# Altium schematic symbol library kmilo17pet-NSC_Switcher.SchLib: 2226 symbols (part 20 of 59)
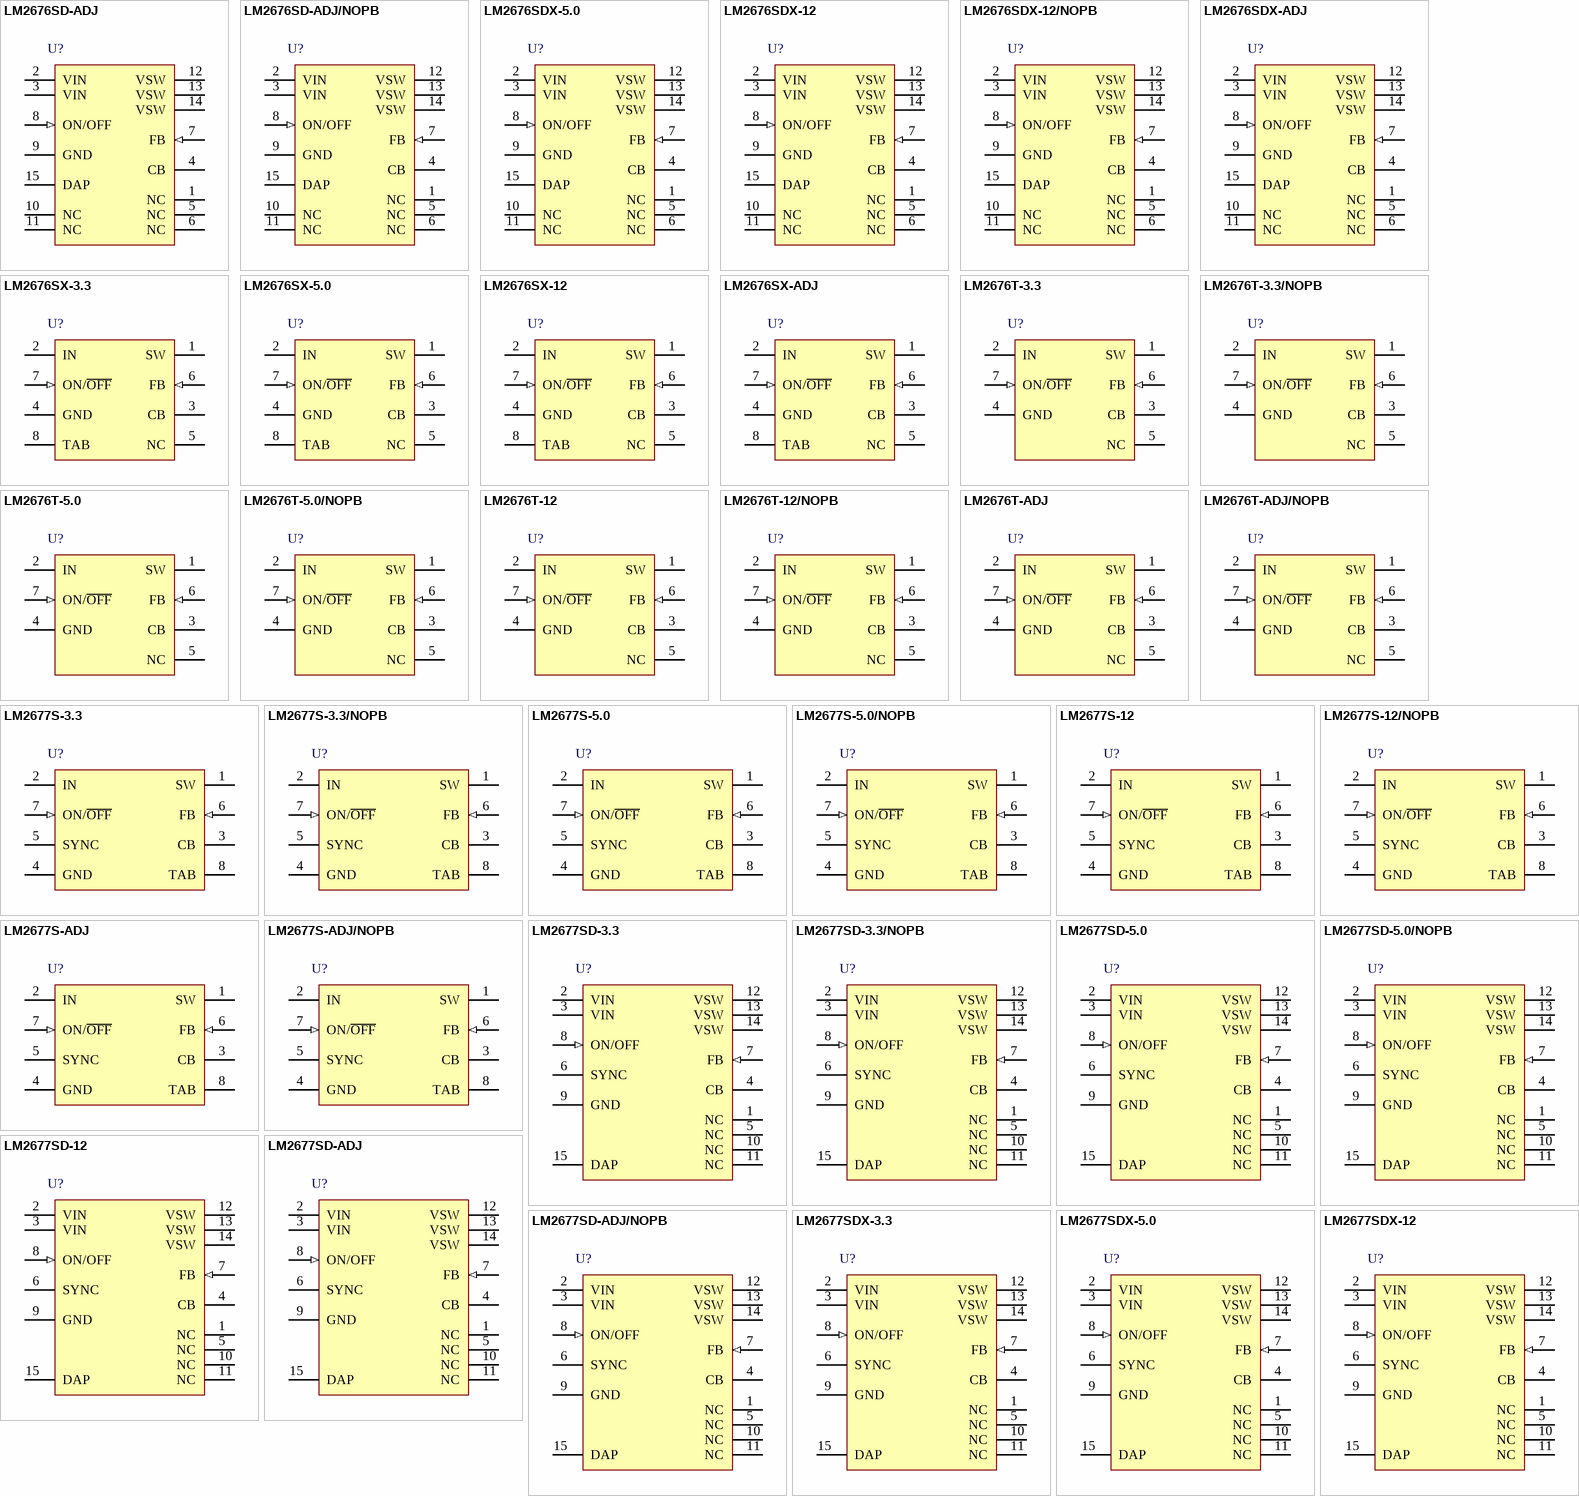
[diagram p88: symbols LM2676SD-ADJ to LM2677SDX-12]

## LM2677S-12/NOPB
designator U?
SIMPLE SWITCHER® High Efficiency 5A Step-Down Voltage Regulator with Sync, 7-pin TO-263, Pb-Free; PartNumber: LM2677S-12/NOPB; Manufacturer: National Semiconductor; PackageTopMarking: NSUZXYTTE#*LM2677S*-12; PowerWise: N; High-Reliability: Y; DatasheetVersion: Feb-2008; PackageVersion: revE, Jul-2003; PackageReference: TS7B; PackageDescription: TO-263, Molded, .400 x .390 x .180in Body, 7 Lead, .050in Pitch, Surface Mount; RoHS: Y; PinCount: 7; CompType: Switcher; Code_JEDEC: MO-169-AC; ComponentLink1Description: Manufacturer URL; ComponentLink1URL: http://www.national.com/; ComponentLink2Description: LM2677 Datasheet; ComponentLink2URL: http://www.national.com/ds/LM/LM2677.pdf; ComponentLink3Description: LM2677 Web Page; ComponentLink3URL: http://www.national.com/pf/LM/LM2677.html; ComponentLink4Description: TS7B Package Page; ComponentLink4URL: http://www.national.com/packaging/folders/ts7b.html
footprint TS7B_N (D2-PAK, 8-Leads, Body 8.6x10.2mm, Pitch 1.27mm, Lead Span 14.1mm, IPC Medium Density)
footprint TS7B_L (D2-PAK, 8-Leads, Body 8.6x10.2mm, Pitch 1.27mm, Lead Span 14.1mm, IPC High Density)
footprint TS7B_M (D2-PAK, 8-Leads, Body 8.6x10.2mm, Pitch 1.27mm, Lead Span 14.1mm, IPC Low Density)
pins: 1 SW (power), 2 IN (power), 3 CB, 4 GND (power), 5 SYNC, 6 FB (in), 7 ON/~{OFF} (in), 8 TAB

## LM2677S-ADJ
designator U?
SIMPLE SWITCHER® High Efficiency 5A Step-Down Voltage Regulator with Sync, 7-pin TO-263; PartNumber: LM2677S-ADJ; Manufacturer: National Semiconductor; PackageTopMarking: NSUZXYTTE#*LM2677S*-ADJ; PowerWise: N; High-Reliability: Y; DatasheetVersion: Feb-2008; PackageVersion: revE, Jul-2003; PackageReference: TS7B; PackageDescription: TO-263, Molded, .400 x .390 x .180in Body, 7 Lead, .050in Pitch, Surface Mount; RoHS: N; PinCount: 7; CompType: Switcher; Code_JEDEC: MO-169-AC; ComponentLink1Description: Manufacturer URL; ComponentLink1URL: http://www.national.com/; ComponentLink2Description: LM2677 Datasheet; ComponentLink2URL: http://www.national.com/ds/LM/LM2677.pdf; ComponentLink3Description: LM2677 Web Page; ComponentLink3URL: http://www.national.com/pf/LM/LM2677.html; ComponentLink4Description: TS7B Package Page; ComponentLink4URL: http://www.national.com/packaging/folders/ts7b.html
footprint TS7B_N (D2-PAK, 8-Leads, Body 8.6x10.2mm, Pitch 1.27mm, Lead Span 14.1mm, IPC Medium Density)
footprint TS7B_L (D2-PAK, 8-Leads, Body 8.6x10.2mm, Pitch 1.27mm, Lead Span 14.1mm, IPC High Density)
footprint TS7B_M (D2-PAK, 8-Leads, Body 8.6x10.2mm, Pitch 1.27mm, Lead Span 14.1mm, IPC Low Density)
pins: 1 SW (power), 2 IN (power), 3 CB, 4 GND (power), 5 SYNC, 6 FB (in), 7 ON/~{OFF} (in), 8 TAB

## LM2677S-ADJ/NOPB
designator U?
SIMPLE SWITCHER® High Efficiency 5A Step-Down Voltage Regulator with Sync, 7-pin TO-263, Pb-Free; PartNumber: LM2677S-ADJ/NOPB; Manufacturer: National Semiconductor; PackageTopMarking: NSUZXYTTE#*LM2677S*-ADJ; PowerWise: N; High-Reliability: Y; DatasheetVersion: Feb-2008; PackageVersion: revE, Jul-2003; PackageReference: TS7B; PackageDescription: TO-263, Molded, .400 x .390 x .180in Body, 7 Lead, .050in Pitch, Surface Mount; RoHS: Y; PinCount: 7; CompType: Switcher; Code_JEDEC: MO-169-AC; ComponentLink1Description: Manufacturer URL; ComponentLink1URL: http://www.national.com/; ComponentLink2Description: LM2677 Datasheet; ComponentLink2URL: http://www.national.com/ds/LM/LM2677.pdf; ComponentLink3Description: LM2677 Web Page; ComponentLink3URL: http://www.national.com/pf/LM/LM2677.html; ComponentLink4Description: TS7B Package Page; ComponentLink4URL: http://www.national.com/packaging/folders/ts7b.html
footprint TS7B_N (D2-PAK, 8-Leads, Body 8.6x10.2mm, Pitch 1.27mm, Lead Span 14.1mm, IPC Medium Density)
footprint TS7B_L (D2-PAK, 8-Leads, Body 8.6x10.2mm, Pitch 1.27mm, Lead Span 14.1mm, IPC High Density)
footprint TS7B_M (D2-PAK, 8-Leads, Body 8.6x10.2mm, Pitch 1.27mm, Lead Span 14.1mm, IPC Low Density)
pins: 1 SW (power), 2 IN (power), 3 CB, 4 GND (power), 5 SYNC, 6 FB (in), 7 ON/~{OFF} (in), 8 TAB

## LM2677SD-3.3
designator U?
SIMPLE SWITCHER® High Efficiency 5A Step-Down Voltage Regulator with Sync, 14-pin LLP; PartNumber: LM2677SD-3.3; Manufacturer: National Semiconductor; PackageTopMarking: NS*UZXYTT*S0002YB; PowerWise: N; High-Reliability: Y; DatasheetVersion: Feb-2008; PackageVersion: revA, Jul-2003; PackageReference: SRC14A; PackageDescription: LLP, Plastic, Dual, 6 x 5 x 1mm Body, 14 Lead, 0.8mm Pitch, No Pullback; RoHS: Y; PinCount: 14; CompType: Switcher; ComponentLink1Description: Manufacturer URL; ComponentLink1URL: http://www.national.com/; ComponentLink2Description: LM2677 Datasheet; ComponentLink2URL: http://www.national.com/ds/LM/LM2677.pdf; ComponentLink3Description: LM2677 Web Page; ComponentLink3URL: http://www.national.com/pf/LM/LM2677.html; ComponentLink4Description: SRC14A Package Page; ComponentLink4URL: http://www.national.com/packaging/folders/src14a.html
footprint SRC14A (SON, 14-Leads, Body 6x5 mm, Pitch 0.8mm, NSC Recommended)
pins: 1 NC, 2 VIN (power), 3 VIN (power), 4 CB, 5 NC, 6 SYNC, 7 FB (in), 8 ON/OFF (in), 9 GND (power), 10 NC, 11 NC, 12 VSW (power), 13 VSW (power), 14 VSW (power), 15 DAP

## LM2677SD-3.3/NOPB
designator U?
SIMPLE SWITCHER® High Efficiency 5A Step-Down Voltage Regulator with Sync, 14-pin LLP, Pb-Free; PartNumber: LM2677SD-3.3/NOPB; Manufacturer: National Semiconductor; PackageTopMarking: NS*UZXYTT*S0002YB; PowerWise: N; High-Reliability: Y; DatasheetVersion: Feb-2008; PackageVersion: revA, Jul-2003; PackageReference: SRC14A; PackageDescription: LLP, Plastic, Dual, 6 x 5 x 1mm Body, 14 Lead, 0.8mm Pitch, No Pullback; RoHS: Y; PinCount: 14; CompType: Switcher; ComponentLink1Description: Manufacturer URL; ComponentLink1URL: http://www.national.com/; ComponentLink2Description: LM2677 Datasheet; ComponentLink2URL: http://www.national.com/ds/LM/LM2677.pdf; ComponentLink3Description: LM2677 Web Page; ComponentLink3URL: http://www.national.com/pf/LM/LM2677.html; ComponentLink4Description: SRC14A Package Page; ComponentLink4URL: http://www.national.com/packaging/folders/src14a.html
footprint SRC14A (SON, 14-Leads, Body 6x5 mm, Pitch 0.8mm, NSC Recommended)
pins: 1 NC, 2 VIN (power), 3 VIN (power), 4 CB, 5 NC, 6 SYNC, 7 FB (in), 8 ON/OFF (in), 9 GND (power), 10 NC, 11 NC, 12 VSW (power), 13 VSW (power), 14 VSW (power), 15 DAP

## LM2677SD-5.0
designator U?
SIMPLE SWITCHER® High Efficiency 5A Step-Down Voltage Regulator with Sync, 14-pin LLP; PartNumber: LM2677SD-5.0; Manufacturer: National Semiconductor; PackageTopMarking: NS*UZXYTT*S0002ZB; PowerWise: N; High-Reliability: Y; DatasheetVersion: Feb-2008; PackageVersion: revA, Jul-2003; PackageReference: SRC14A; PackageDescription: LLP, Plastic, Dual, 6 x 5 x 1mm Body, 14 Lead, 0.8mm Pitch, No Pullback; RoHS: N; PinCount: 14; CompType: Switcher; ComponentLink1Description: Manufacturer URL; ComponentLink1URL: http://www.national.com/; ComponentLink2Description: LM2677 Datasheet; ComponentLink2URL: http://www.national.com/ds/LM/LM2677.pdf; ComponentLink3Description: LM2677 Web Page; ComponentLink3URL: http://www.national.com/pf/LM/LM2677.html; ComponentLink4Description: SRC14A Package Page; ComponentLink4URL: http://www.national.com/packaging/folders/src14a.html
footprint SRC14A (SON, 14-Leads, Body 6x5 mm, Pitch 0.8mm, NSC Recommended)
pins: 1 NC, 2 VIN (power), 3 VIN (power), 4 CB, 5 NC, 6 SYNC, 7 FB (in), 8 ON/OFF (in), 9 GND (power), 10 NC, 11 NC, 12 VSW (power), 13 VSW (power), 14 VSW (power), 15 DAP

## LM2677SD-5.0/NOPB
designator U?
SIMPLE SWITCHER® High Efficiency 5A Step-Down Voltage Regulator with Sync, 14-pin LLP, Pb-Free; PartNumber: LM2677SD-5.0/NOPB; Manufacturer: National Semiconductor; PackageTopMarking: NS*UZXYTT*S0002ZB; PowerWise: N; High-Reliability: Y; DatasheetVersion: Feb-2008; PackageVersion: revA, Jul-2003; PackageReference: SRC14A; PackageDescription: LLP, Plastic, Dual, 6 x 5 x 1mm Body, 14 Lead, 0.8mm Pitch, No Pullback; RoHS: Y; PinCount: 14; CompType: Switcher; ComponentLink1Description: Manufacturer URL; ComponentLink1URL: http://www.national.com/; ComponentLink2Description: LM2677 Datasheet; ComponentLink2URL: http://www.national.com/ds/LM/LM2677.pdf; ComponentLink3Description: LM2677 Web Page; ComponentLink3URL: http://www.national.com/pf/LM/LM2677.html; ComponentLink4Description: SRC14A Package Page; ComponentLink4URL: http://www.national.com/packaging/folders/src14a.html
footprint SRC14A (SON, 14-Leads, Body 6x5 mm, Pitch 0.8mm, NSC Recommended)
pins: 1 NC, 2 VIN (power), 3 VIN (power), 4 CB, 5 NC, 6 SYNC, 7 FB (in), 8 ON/OFF (in), 9 GND (power), 10 NC, 11 NC, 12 VSW (power), 13 VSW (power), 14 VSW (power), 15 DAP

## LM2677SD-12
designator U?
SIMPLE SWITCHER® High Efficiency 5A Step-Down Voltage Regulator with Sync, 14-pin LLP; PartNumber: LM2677SD-12; Manufacturer: National Semiconductor; PackageTopMarking: NS*UZXYTT*S0002XB; PowerWise: N; High-Reliability: Y; DatasheetVersion: Feb-2008; PackageVersion: revA, Jul-2003; PackageReference: SRC14A; PackageDescription: LLP, Plastic, Dual, 6 x 5 x 1mm Body, 14 Lead, 0.8mm Pitch, No Pullback; RoHS: N; PinCount: 14; CompType: Switcher; ComponentLink1Description: Manufacturer URL; ComponentLink1URL: http://www.national.com/; ComponentLink2Description: LM2677 Datasheet; ComponentLink2URL: http://www.national.com/ds/LM/LM2677.pdf; ComponentLink3Description: LM2677 Web Page; ComponentLink3URL: http://www.national.com/pf/LM/LM2677.html; ComponentLink4Description: SRC14A Package Page; ComponentLink4URL: http://www.national.com/packaging/folders/src14a.html
footprint SRC14A (SON, 14-Leads, Body 6x5 mm, Pitch 0.8mm, NSC Recommended)
pins: 1 NC, 2 VIN (power), 3 VIN (power), 4 CB, 5 NC, 6 SYNC, 7 FB (in), 8 ON/OFF (in), 9 GND (power), 10 NC, 11 NC, 12 VSW (power), 13 VSW (power), 14 VSW (power), 15 DAP

## LM2677SD-ADJ
designator U?
SIMPLE SWITCHER® High Efficiency 5A Step-Down Voltage Regulator with Sync, 14-pin LLP; PartNumber: LM2677SD-ADJ; Manufacturer: National Semiconductor; PackageTopMarking: NS*UZXYTT*S0003AB; PowerWise: N; High-Reliability: Y; DatasheetVersion: Feb-2008; PackageVersion: revA, Jul-2003; PackageReference: SRC14A; PackageDescription: LLP, Plastic, Dual, 6 x 5 x 1mm Body, 14 Lead, 0.8mm Pitch, No Pullback; RoHS: N; PinCount: 14; CompType: Switcher; ComponentLink1Description: Manufacturer URL; ComponentLink1URL: http://www.national.com/; ComponentLink2Description: LM2677 Datasheet; ComponentLink2URL: http://www.national.com/ds/LM/LM2677.pdf; ComponentLink3Description: LM2677 Web Page; ComponentLink3URL: http://www.national.com/pf/LM/LM2677.html; ComponentLink4Description: SRC14A Package Page; ComponentLink4URL: http://www.national.com/packaging/folders/src14a.html
footprint SRC14A (SON, 14-Leads, Body 6x5 mm, Pitch 0.8mm, NSC Recommended)
pins: 1 NC, 2 VIN (power), 3 VIN (power), 4 CB, 5 NC, 6 SYNC, 7 FB (in), 8 ON/OFF (in), 9 GND (power), 10 NC, 11 NC, 12 VSW (power), 13 VSW (power), 14 VSW (power), 15 DAP

## LM2677SD-ADJ/NOPB
designator U?
SIMPLE SWITCHER® High Efficiency 5A Step-Down Voltage Regulator with Sync, 14-pin LLP, Pb-Free; PartNumber: LM2677SD-ADJ/NOPB; Manufacturer: National Semiconductor; PackageTopMarking: NS*UZXYTT*S0003AB; PowerWise: N; High-Reliability: Y; DatasheetVersion: Feb-2008; PackageVersion: revA, Jul-2003; PackageReference: SRC14A; PackageDescription: LLP, Plastic, Dual, 6 x 5 x 1mm Body, 14 Lead, 0.8mm Pitch, No Pullback; RoHS: Y; PinCount: 14; CompType: Switcher; ComponentLink1Description: Manufacturer URL; ComponentLink1URL: http://www.national.com/; ComponentLink2Description: LM2677 Datasheet; ComponentLink2URL: http://www.national.com/ds/LM/LM2677.pdf; ComponentLink3Description: LM2677 Web Page; ComponentLink3URL: http://www.national.com/pf/LM/LM2677.html; ComponentLink4Description: SRC14A Package Page; ComponentLink4URL: http://www.national.com/packaging/folders/src14a.html
footprint SRC14A (SON, 14-Leads, Body 6x5 mm, Pitch 0.8mm, NSC Recommended)
pins: 1 NC, 2 VIN (power), 3 VIN (power), 4 CB, 5 NC, 6 SYNC, 7 FB (in), 8 ON/OFF (in), 9 GND (power), 10 NC, 11 NC, 12 VSW (power), 13 VSW (power), 14 VSW (power), 15 DAP

## LM2677SDX-3.3
designator U?
SIMPLE SWITCHER® High Efficiency 5A Step-Down Voltage Regulator with Sync, 14-pin LLP; PartNumber: LM2677SDX-3.3; Manufacturer: National Semiconductor; PackageTopMarking: NS*UZXYTT*S0002YB; PowerWise: N; High-Reliability: Y; DatasheetVersion: Feb-2008; PackageVersion: revA, Jul-2003; PackageReference: SRC14A; PackageDescription: LLP, Plastic, Dual, 6 x 5 x 1mm Body, 14 Lead, 0.8mm Pitch, No Pullback; RoHS: N; PinCount: 14; CompType: Switcher; ComponentLink1Description: Manufacturer URL; ComponentLink1URL: http://www.national.com/; ComponentLink2Description: LM2677 Datasheet; ComponentLink2URL: http://www.national.com/ds/LM/LM2677.pdf; ComponentLink3Description: LM2677 Web Page; ComponentLink3URL: http://www.national.com/pf/LM/LM2677.html; ComponentLink4Description: SRC14A Package Page; ComponentLink4URL: http://www.national.com/packaging/folders/src14a.html
footprint SRC14A (SON, 14-Leads, Body 6x5 mm, Pitch 0.8mm, NSC Recommended)
pins: 1 NC, 2 VIN (power), 3 VIN (power), 4 CB, 5 NC, 6 SYNC, 7 FB (in), 8 ON/OFF (in), 9 GND (power), 10 NC, 11 NC, 12 VSW (power), 13 VSW (power), 14 VSW (power), 15 DAP

## LM2677SDX-5.0
designator U?
SIMPLE SWITCHER® High Efficiency 5A Step-Down Voltage Regulator with Sync, 14-pin LLP; PartNumber: LM2677SDX-5.0; Manufacturer: National Semiconductor; PackageTopMarking: NS*UZXYTT*S0002ZB; PowerWise: N; High-Reliability: Y; DatasheetVersion: Feb-2008; PackageVersion: revA, Jul-2003; PackageReference: SRC14A; PackageDescription: LLP, Plastic, Dual, 6 x 5 x 1mm Body, 14 Lead, 0.8mm Pitch, No Pullback; RoHS: N; PinCount: 14; CompType: Switcher; ComponentLink1Description: Manufacturer URL; ComponentLink1URL: http://www.national.com/; ComponentLink2Description: LM2677 Datasheet; ComponentLink2URL: http://www.national.com/ds/LM/LM2677.pdf; ComponentLink3Description: LM2677 Web Page; ComponentLink3URL: http://www.national.com/pf/LM/LM2677.html; ComponentLink4Description: SRC14A Package Page; ComponentLink4URL: http://www.national.com/packaging/folders/src14a.html
footprint SRC14A (SON, 14-Leads, Body 6x5 mm, Pitch 0.8mm, NSC Recommended)
pins: 1 NC, 2 VIN (power), 3 VIN (power), 4 CB, 5 NC, 6 SYNC, 7 FB (in), 8 ON/OFF (in), 9 GND (power), 10 NC, 11 NC, 12 VSW (power), 13 VSW (power), 14 VSW (power), 15 DAP

## LM2677SDX-12
designator U?
SIMPLE SWITCHER® High Efficiency 5A Step-Down Voltage Regulator with Sync, 14-pin LLP; PartNumber: LM2677SDX-12; Manufacturer: National Semiconductor; PackageTopMarking: NS*UZXYTT*S0002XB; PowerWise: N; High-Reliability: Y; DatasheetVersion: Feb-2008; PackageVersion: revA, Jul-2003; PackageReference: SRC14A; PackageDescription: LLP, Plastic, Dual, 6 x 5 x 1mm Body, 14 Lead, 0.8mm Pitch, No Pullback; RoHS: N; PinCount: 14; CompType: Switcher; ComponentLink1Description: Manufacturer URL; ComponentLink1URL: http://www.national.com/; ComponentLink2Description: LM2677 Datasheet; ComponentLink2URL: http://www.national.com/ds/LM/LM2677.pdf; ComponentLink3Description: LM2677 Web Page; ComponentLink3URL: http://www.national.com/pf/LM/LM2677.html; ComponentLink4Description: SRC14A Package Page; ComponentLink4URL: http://www.national.com/packaging/folders/src14a.html
footprint SRC14A (SON, 14-Leads, Body 6x5 mm, Pitch 0.8mm, NSC Recommended)
pins: 1 NC, 2 VIN (power), 3 VIN (power), 4 CB, 5 NC, 6 SYNC, 7 FB (in), 8 ON/OFF (in), 9 GND (power), 10 NC, 11 NC, 12 VSW (power), 13 VSW (power), 14 VSW (power), 15 DAP

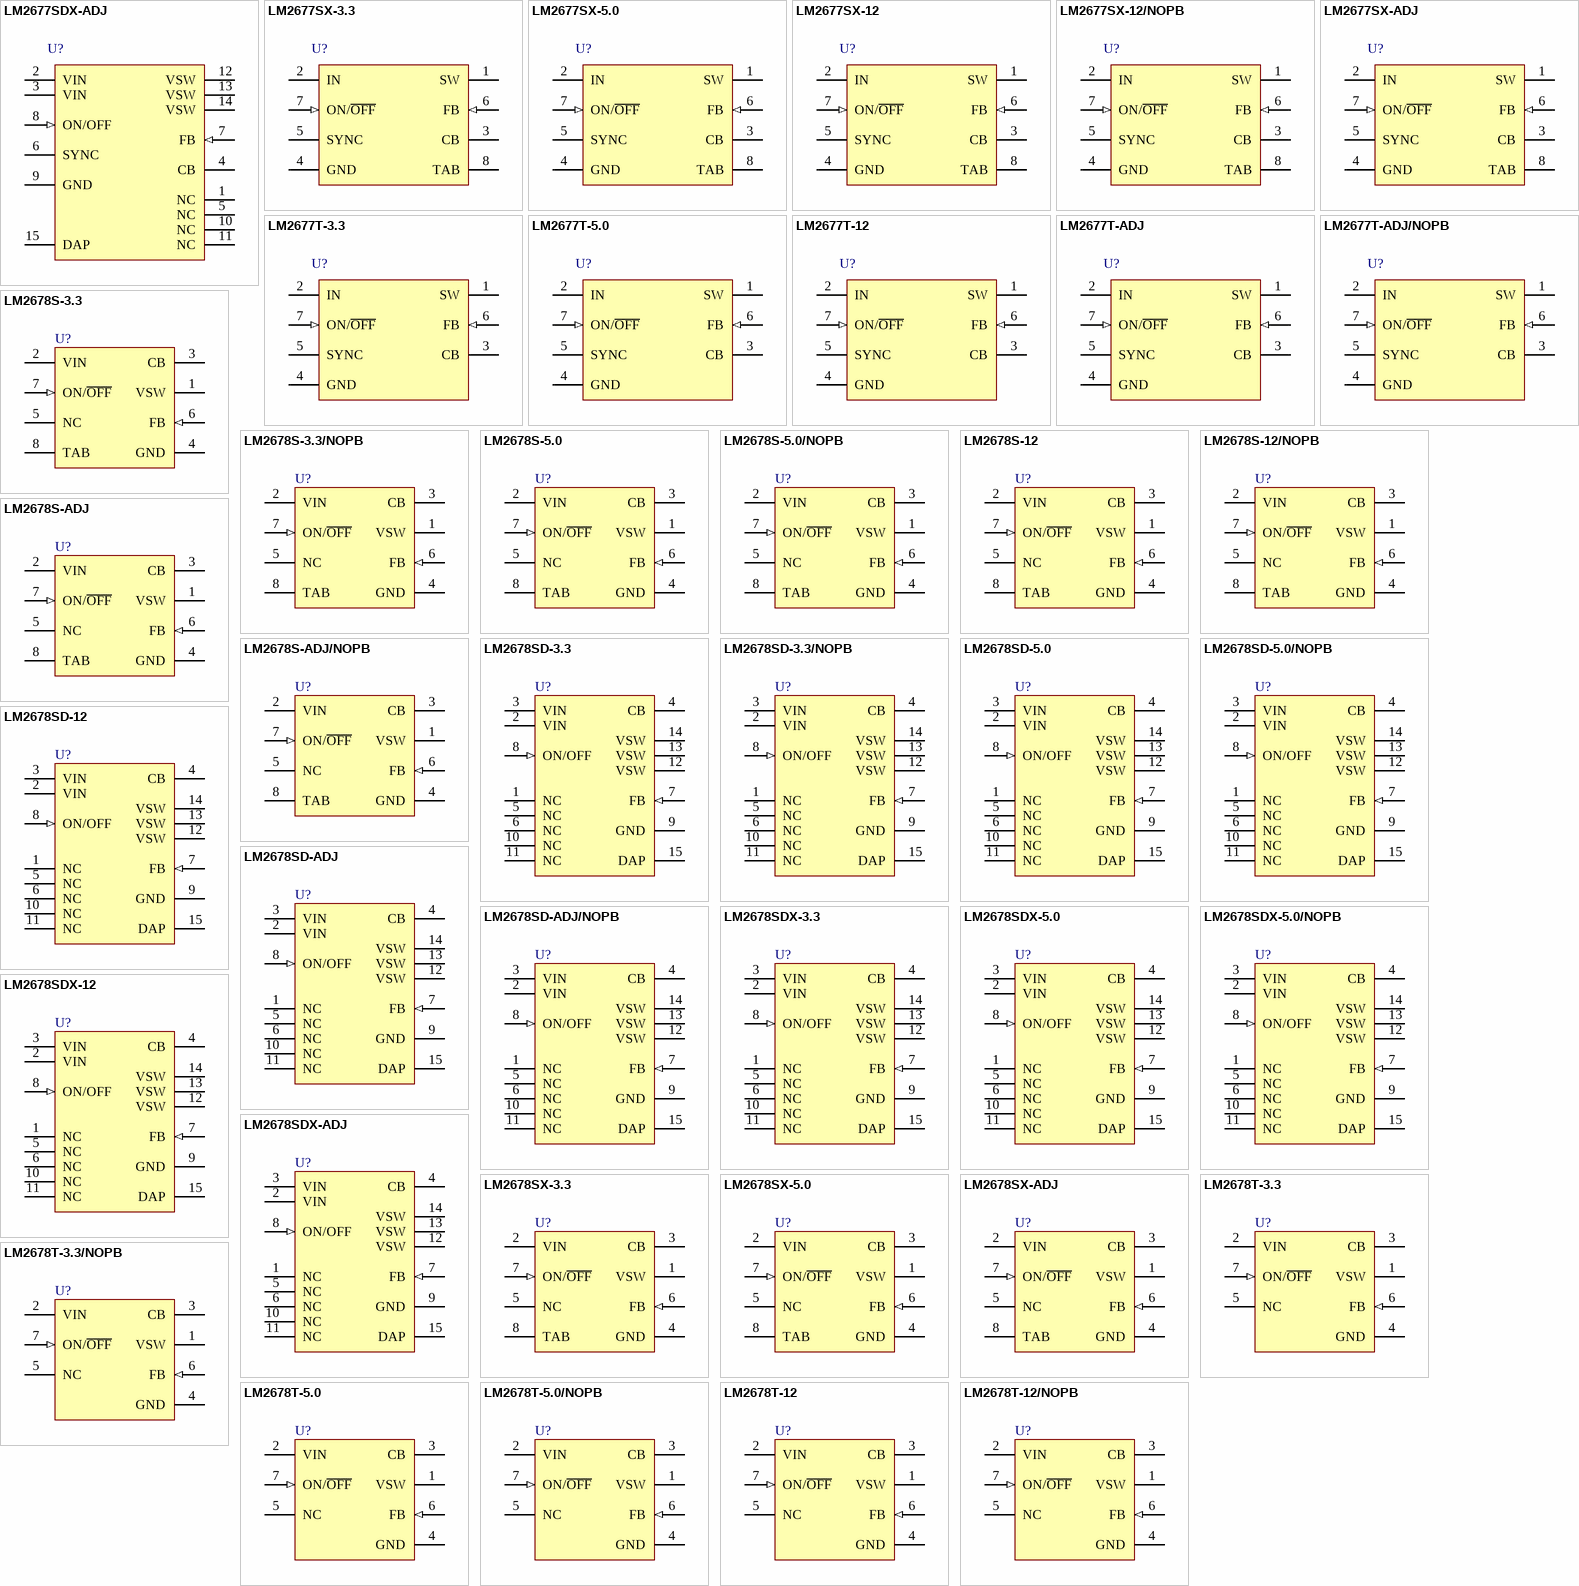
[diagram p21: symbols LM2677SDX-ADJ to LM2678T-12/NOPB]

## LM2677SDX-ADJ
designator U?
SIMPLE SWITCHER® High Efficiency 5A Step-Down Voltage Regulator with Sync, 14-pin LLP; PartNumber: LM2677SDX-ADJ; Manufacturer: National Semiconductor; PackageTopMarking: NS*UZXYTT*S0003AB; PowerWise: N; High-Reliability: Y; DatasheetVersion: Feb-2008; PackageVersion: revA, Jul-2003; PackageReference: SRC14A; PackageDescription: LLP, Plastic, Dual, 6 x 5 x 1mm Body, 14 Lead, 0.8mm Pitch, No Pullback; RoHS: N; PinCount: 14; CompType: Switcher; ComponentLink1Description: Manufacturer URL; ComponentLink1URL: http://www.national.com/; ComponentLink2Description: LM2677 Datasheet; ComponentLink2URL: http://www.national.com/ds/LM/LM2677.pdf; ComponentLink3Description: LM2677 Web Page; ComponentLink3URL: http://www.national.com/pf/LM/LM2677.html; ComponentLink4Description: SRC14A Package Page; ComponentLink4URL: http://www.national.com/packaging/folders/src14a.html
footprint SRC14A (SON, 14-Leads, Body 6x5 mm, Pitch 0.8mm, NSC Recommended)
pins: 1 NC, 2 VIN (power), 3 VIN (power), 4 CB, 5 NC, 6 SYNC, 7 FB (in), 8 ON/OFF (in), 9 GND (power), 10 NC, 11 NC, 12 VSW (power), 13 VSW (power), 14 VSW (power), 15 DAP

## LM2677SX-3.3
designator U?
SIMPLE SWITCHER® High Efficiency 5A Step-Down Voltage Regulator with Sync, 7-pin TO-263; PartNumber: LM2677SX-3.3; Manufacturer: National Semiconductor; PackageTopMarking: NSUZXYTTE#*LM2677S*-3.3; PowerWise: N; High-Reliability: Y; DatasheetVersion: Feb-2008; PackageVersion: revE, Jul-2003; PackageReference: TS7B; PackageDescription: TO-263, Molded, .400 x .390 x .180in Body, 7 Lead, .050in Pitch, Surface Mount; RoHS: N; PinCount: 7; CompType: Switcher; Code_JEDEC: MO-169-AC; ComponentLink1Description: Manufacturer URL; ComponentLink1URL: http://www.national.com/; ComponentLink2Description: LM2677 Datasheet; ComponentLink2URL: http://www.national.com/ds/LM/LM2677.pdf; ComponentLink3Description: LM2677 Web Page; ComponentLink3URL: http://www.national.com/pf/LM/LM2677.html; ComponentLink4Description: TS7B Package Page; ComponentLink4URL: http://www.national.com/packaging/folders/ts7b.html
footprint TS7B_N (D2-PAK, 8-Leads, Body 8.6x10.2mm, Pitch 1.27mm, Lead Span 14.1mm, IPC Medium Density)
footprint TS7B_L (D2-PAK, 8-Leads, Body 8.6x10.2mm, Pitch 1.27mm, Lead Span 14.1mm, IPC High Density)
footprint TS7B_M (D2-PAK, 8-Leads, Body 8.6x10.2mm, Pitch 1.27mm, Lead Span 14.1mm, IPC Low Density)
pins: 1 SW (power), 2 IN (power), 3 CB, 4 GND (power), 5 SYNC, 6 FB (in), 7 ON/~{OFF} (in), 8 TAB

## LM2677SX-5.0
designator U?
SIMPLE SWITCHER® High Efficiency 5A Step-Down Voltage Regulator with Sync, 7-pin TO-263; PartNumber: LM2677SX-5.0; Manufacturer: National Semiconductor; PackageTopMarking: NSUZXYTTE#*LM2677S*-5.0; PowerWise: N; High-Reliability: Y; DatasheetVersion: Feb-2008; PackageVersion: revE, Jul-2003; PackageReference: TS7B; PackageDescription: TO-263, Molded, .400 x .390 x .180in Body, 7 Lead, .050in Pitch, Surface Mount; RoHS: N; PinCount: 7; CompType: Switcher; Code_JEDEC: MO-169-AC; ComponentLink1Description: Manufacturer URL; ComponentLink1URL: http://www.national.com/; ComponentLink2Description: LM2677 Datasheet; ComponentLink2URL: http://www.national.com/ds/LM/LM2677.pdf; ComponentLink3Description: LM2677 Web Page; ComponentLink3URL: http://www.national.com/pf/LM/LM2677.html; ComponentLink4Description: TS7B Package Page; ComponentLink4URL: http://www.national.com/packaging/folders/ts7b.html
footprint TS7B_N (D2-PAK, 8-Leads, Body 8.6x10.2mm, Pitch 1.27mm, Lead Span 14.1mm, IPC Medium Density)
footprint TS7B_L (D2-PAK, 8-Leads, Body 8.6x10.2mm, Pitch 1.27mm, Lead Span 14.1mm, IPC High Density)
footprint TS7B_M (D2-PAK, 8-Leads, Body 8.6x10.2mm, Pitch 1.27mm, Lead Span 14.1mm, IPC Low Density)
pins: 1 SW (power), 2 IN (power), 3 CB, 4 GND (power), 5 SYNC, 6 FB (in), 7 ON/~{OFF} (in), 8 TAB

## LM2677SX-12
designator U?
SIMPLE SWITCHER® High Efficiency 5A Step-Down Voltage Regulator with Sync, 7-pin TO-263; PartNumber: LM2677SX-12; Manufacturer: National Semiconductor; PackageTopMarking: NSUZXYTTE#*LM2677S*-12; PowerWise: N; High-Reliability: Y; DatasheetVersion: Feb-2008; PackageVersion: revE, Jul-2003; PackageReference: TS7B; PackageDescription: TO-263, Molded, .400 x .390 x .180in Body, 7 Lead, .050in Pitch, Surface Mount; RoHS: N; PinCount: 7; CompType: Switcher; Code_JEDEC: MO-169-AC; ComponentLink1Description: Manufacturer URL; ComponentLink1URL: http://www.national.com/; ComponentLink2Description: LM2677 Datasheet; ComponentLink2URL: http://www.national.com/ds/LM/LM2677.pdf; ComponentLink3Description: LM2677 Web Page; ComponentLink3URL: http://www.national.com/pf/LM/LM2677.html; ComponentLink4Description: TS7B Package Page; ComponentLink4URL: http://www.national.com/packaging/folders/ts7b.html
footprint TS7B_N (D2-PAK, 8-Leads, Body 8.6x10.2mm, Pitch 1.27mm, Lead Span 14.1mm, IPC Medium Density)
footprint TS7B_L (D2-PAK, 8-Leads, Body 8.6x10.2mm, Pitch 1.27mm, Lead Span 14.1mm, IPC High Density)
footprint TS7B_M (D2-PAK, 8-Leads, Body 8.6x10.2mm, Pitch 1.27mm, Lead Span 14.1mm, IPC Low Density)
pins: 1 SW (power), 2 IN (power), 3 CB, 4 GND (power), 5 SYNC, 6 FB (in), 7 ON/~{OFF} (in), 8 TAB

## LM2677SX-12/NOPB
designator U?
SIMPLE SWITCHER® High Efficiency 5A Step-Down Voltage Regulator with Sync, 7-pin TO-263, Pb-Free; PartNumber: LM2677SX-12/NOPB; Manufacturer: National Semiconductor; PackageTopMarking: NSUZXYTTE#*LM2677S*-12; PowerWise: N; High-Reliability: Y; DatasheetVersion: Feb-2008; PackageVersion: revE, Jul-2003; PackageReference: TS7B; PackageDescription: TO-263, Molded, .400 x .390 x .180in Body, 7 Lead, .050in Pitch, Surface Mount; RoHS: Y; PinCount: 7; CompType: Switcher; Code_JEDEC: MO-169-AC; ComponentLink1Description: Manufacturer URL; ComponentLink1URL: http://www.national.com/; ComponentLink2Description: LM2677 Datasheet; ComponentLink2URL: http://www.national.com/ds/LM/LM2677.pdf; ComponentLink3Description: LM2677 Web Page; ComponentLink3URL: http://www.national.com/pf/LM/LM2677.html; ComponentLink4Description: TS7B Package Page; ComponentLink4URL: http://www.national.com/packaging/folders/ts7b.html
footprint TS7B_N (D2-PAK, 8-Leads, Body 8.6x10.2mm, Pitch 1.27mm, Lead Span 14.1mm, IPC Medium Density)
footprint TS7B_L (D2-PAK, 8-Leads, Body 8.6x10.2mm, Pitch 1.27mm, Lead Span 14.1mm, IPC High Density)
footprint TS7B_M (D2-PAK, 8-Leads, Body 8.6x10.2mm, Pitch 1.27mm, Lead Span 14.1mm, IPC Low Density)
pins: 1 SW (power), 2 IN (power), 3 CB, 4 GND (power), 5 SYNC, 6 FB (in), 7 ON/~{OFF} (in), 8 TAB

## LM2677SX-ADJ
designator U?
SIMPLE SWITCHER® High Efficiency 5A Step-Down Voltage Regulator with Sync, 7-pin TO-263; PartNumber: LM2677SX-ADJ; Manufacturer: National Semiconductor; PackageTopMarking: NSUZXYTTE#*LM2677S*-ADJ; PowerWise: N; High-Reliability: Y; DatasheetVersion: Feb-2008; PackageVersion: revE, Jul-2003; PackageReference: TS7B; PackageDescription: TO-263, Molded, .400 x .390 x .180in Body, 7 Lead, .050in Pitch, Surface Mount; RoHS: N; PinCount: 7; CompType: Switcher; Code_JEDEC: MO-169-AC; ComponentLink1Description: Manufacturer URL; ComponentLink1URL: http://www.national.com/; ComponentLink2Description: LM2677 Datasheet; ComponentLink2URL: http://www.national.com/ds/LM/LM2677.pdf; ComponentLink3Description: LM2677 Web Page; ComponentLink3URL: http://www.national.com/pf/LM/LM2677.html; ComponentLink4Description: TS7B Package Page; ComponentLink4URL: http://www.national.com/packaging/folders/ts7b.html
footprint TS7B_N (D2-PAK, 8-Leads, Body 8.6x10.2mm, Pitch 1.27mm, Lead Span 14.1mm, IPC Medium Density)
footprint TS7B_L (D2-PAK, 8-Leads, Body 8.6x10.2mm, Pitch 1.27mm, Lead Span 14.1mm, IPC High Density)
footprint TS7B_M (D2-PAK, 8-Leads, Body 8.6x10.2mm, Pitch 1.27mm, Lead Span 14.1mm, IPC Low Density)
pins: 1 SW (power), 2 IN (power), 3 CB, 4 GND (power), 5 SYNC, 6 FB (in), 7 ON/~{OFF} (in), 8 TAB

## LM2677T-3.3
designator U?
SIMPLE SWITCHER® High Efficiency 5A Step-Down Voltage Regulator with Sync, 7-pin TO-220; PartNumber: LM2677T-3.3; Manufacturer: National Semiconductor; PackageTopMarking: NSUZXYTTE#*LM2677T*-3.3; PowerWise: N; High-Reliability: Y; DatasheetVersion: Feb-2008; PackageVersion: revC, Apr-1999; PackageReference: TA07B; PackageDescription: TO-220, Molded, .400 x .590 x .180in Body, 7 Lead, .050in Pitch, Staggered; RoHS: N; PinCount: 7; CompType: Switcher; Code_JEDEC: TO-220-AB; ComponentLink1Description: Manufacturer URL; ComponentLink1URL: http://www.national.com/; ComponentLink2Description: LM2677 Datasheet; ComponentLink2URL: http://www.national.com/ds/LM/LM2677.pdf; ComponentLink3Description: LM2677 Web Page; ComponentLink3URL: http://www.national.com/pf/LM/LM2677.html; ComponentLink4Description: TA07B Package Page; ComponentLink4URL: http://www.national.com/packaging/folders/ta07b.html
footprint TA07B (TO, Thru-Hole, Vertical, Heatsink Mounted; 7 Bent Staggered Leads; Body 10.2x8.7x4.6mm, Pitch 1.27 mm)
pins: 1 SW (power), 2 IN (power), 3 CB, 4 GND (power), 5 SYNC, 6 FB (in), 7 ON/~{OFF} (in)

## LM2677T-5.0
designator U?
SIMPLE SWITCHER® High Efficiency 5A Step-Down Voltage Regulator with Sync, 7-pin TO-220; PartNumber: LM2677T-5.0; Manufacturer: National Semiconductor; PackageTopMarking: NSUZXYTTE#*LM2677T*-5.0; PowerWise: N; High-Reliability: Y; DatasheetVersion: Feb-2008; PackageVersion: revC, Apr-1999; PackageReference: TA07B; PackageDescription: TO-220, Molded, .400 x .590 x .180in Body, 7 Lead, .050in Pitch, Staggered; RoHS: N; PinCount: 7; CompType: Switcher; Code_JEDEC: TO-220-AB; ComponentLink1Description: Manufacturer URL; ComponentLink1URL: http://www.national.com/; ComponentLink2Description: LM2677 Datasheet; ComponentLink2URL: http://www.national.com/ds/LM/LM2677.pdf; ComponentLink3Description: LM2677 Web Page; ComponentLink3URL: http://www.national.com/pf/LM/LM2677.html; ComponentLink4Description: TA07B Package Page; ComponentLink4URL: http://www.national.com/packaging/folders/ta07b.html
footprint TA07B (TO, Thru-Hole, Vertical, Heatsink Mounted; 7 Bent Staggered Leads; Body 10.2x8.7x4.6mm, Pitch 1.27 mm)
pins: 1 SW (power), 2 IN (power), 3 CB, 4 GND (power), 5 SYNC, 6 FB (in), 7 ON/~{OFF} (in)

## LM2677T-12
designator U?
SIMPLE SWITCHER® High Efficiency 5A Step-Down Voltage Regulator with Sync, 7-pin TO-220; PartNumber: LM2677T-12; Manufacturer: National Semiconductor; PackageTopMarking: NSUZXYTTE#*LM2677T*-12; PowerWise: N; High-Reliability: Y; DatasheetVersion: Feb-2008; PackageVersion: revC, Apr-1999; PackageReference: TA07B; PackageDescription: TO-220, Molded, .400 x .590 x .180in Body, 7 Lead, .050in Pitch, Staggered; RoHS: N; PinCount: 7; CompType: Switcher; Code_JEDEC: TO-220-AB; ComponentLink1Description: Manufacturer URL; ComponentLink1URL: http://www.national.com/; ComponentLink2Description: LM2677 Datasheet; ComponentLink2URL: http://www.national.com/ds/LM/LM2677.pdf; ComponentLink3Description: LM2677 Web Page; ComponentLink3URL: http://www.national.com/pf/LM/LM2677.html; ComponentLink4Description: TA07B Package Page; ComponentLink4URL: http://www.national.com/packaging/folders/ta07b.html
footprint TA07B (TO, Thru-Hole, Vertical, Heatsink Mounted; 7 Bent Staggered Leads; Body 10.2x8.7x4.6mm, Pitch 1.27 mm)
pins: 1 SW (power), 2 IN (power), 3 CB, 4 GND (power), 5 SYNC, 6 FB (in), 7 ON/~{OFF} (in)

## LM2677T-ADJ
designator U?
SIMPLE SWITCHER® High Efficiency 5A Step-Down Voltage Regulator with Sync, 7-pin TO-220; PartNumber: LM2677T-ADJ; Manufacturer: National Semiconductor; PackageTopMarking: NSUZXYTTE#*LM2677T*-ADJ; PowerWise: N; High-Reliability: Y; DatasheetVersion: Feb-2008; PackageVersion: revC, Apr-1999; PackageReference: TA07B; PackageDescription: TO-220, Molded, .400 x .590 x .180in Body, 7 Lead, .050in Pitch, Staggered; RoHS: N; PinCount: 7; CompType: Switcher; Code_JEDEC: TO-220-AB; ComponentLink1Description: Manufacturer URL; ComponentLink1URL: http://www.national.com/; ComponentLink2Description: LM2677 Datasheet; ComponentLink2URL: http://www.national.com/ds/LM/LM2677.pdf; ComponentLink3Description: LM2677 Web Page; ComponentLink3URL: http://www.national.com/pf/LM/LM2677.html; ComponentLink4Description: TA07B Package Page; ComponentLink4URL: http://www.national.com/packaging/folders/ta07b.html
footprint TA07B (TO, Thru-Hole, Vertical, Heatsink Mounted; 7 Bent Staggered Leads; Body 10.2x8.7x4.6mm, Pitch 1.27 mm)
pins: 1 SW (power), 2 IN (power), 3 CB, 4 GND (power), 5 SYNC, 6 FB (in), 7 ON/~{OFF} (in)

## LM2677T-ADJ/NOPB
designator U?
SIMPLE SWITCHER® High Efficiency 5A Step-Down Voltage Regulator with Sync, 7-pin TO-220, Pb-Free; PartNumber: LM2677T-ADJ/NOPB; Manufacturer: National Semiconductor; PackageTopMarking: NSUZXYTTE#*LM2677T*-ADJ; PowerWise: N; High-Reliability: Y; DatasheetVersion: Feb-2008; PackageVersion: revC, Apr-1999; PackageReference: TA07B; PackageDescription: TO-220, Molded, .400 x .590 x .180in Body, 7 Lead, .050in Pitch, Staggered; RoHS: Y; PinCount: 7; CompType: Switcher; Code_JEDEC: TO-220-AB; ComponentLink1Description: Manufacturer URL; ComponentLink1URL: http://www.national.com/; ComponentLink2Description: LM2677 Datasheet; ComponentLink2URL: http://www.national.com/ds/LM/LM2677.pdf; ComponentLink3Description: LM2677 Web Page; ComponentLink3URL: http://www.national.com/pf/LM/LM2677.html; ComponentLink4Description: TA07B Package Page; ComponentLink4URL: http://www.national.com/packaging/folders/ta07b.html
footprint TA07B (TO, Thru-Hole, Vertical, Heatsink Mounted; 7 Bent Staggered Leads; Body 10.2x8.7x4.6mm, Pitch 1.27 mm)
pins: 1 SW (power), 2 IN (power), 3 CB, 4 GND (power), 5 SYNC, 6 FB (in), 7 ON/~{OFF} (in)

## LM2678S-3.3
designator U?
SIMPLE SWITCHER® High Efficiency 5A Step-Down Voltage Regulator, 7-pin TO-263; PartNumber: LM2678S-3.3; Manufacturer: National Semiconductor; PackageTopMarking: NSUZXYTTE#*LM2678*S-3.3; PowerWise: N; High-Reliability: Y; DatasheetVersion: May-2008; PackageVersion: revE, Jul-2003; PackageReference: TS7B; PackageDescription: TO-263, Molded, .400 x .390 x .180in Body, 7 Lead, .050in Pitch, Surface Mount; RoHS: N; PinCount: 7; CompType: Switcher; Code_JEDEC: MO-169-AC; ComponentLink1Description: Manufacturer URL; ComponentLink1URL: http://www.national.com/; ComponentLink2Description: LM2678 Datasheet; ComponentLink2URL: http://www.national.com/ds/LM/LM2678.pdf; ComponentLink3Description: LM2678 Web Page; ComponentLink3URL: http://www.national.com/pf/LM/LM2678.html; ComponentLink4Description: TS7B Package Page; ComponentLink4URL: http://www.national.com/packaging/folders/ts7b.html
footprint TS7B_N (D2-PAK, 8-Leads, Body 8.6x10.2mm, Pitch 1.27mm, Lead Span 14.1mm, IPC Medium Density)
footprint TS7B_L (D2-PAK, 8-Leads, Body 8.6x10.2mm, Pitch 1.27mm, Lead Span 14.1mm, IPC High Density)
footprint TS7B_M (D2-PAK, 8-Leads, Body 8.6x10.2mm, Pitch 1.27mm, Lead Span 14.1mm, IPC Low Density)
pins: 1 VSW (power), 2 VIN (power), 3 CB, 4 GND (power), 5 NC, 6 FB (in), 7 ON/~{OFF} (in), 8 TAB (power)

## LM2678S-3.3/NOPB
designator U?
SIMPLE SWITCHER® High Efficiency 5A Step-Down Voltage Regulator, 7-pin TO-263, Pb-Free; PartNumber: LM2678S-3.3/NOPB; Manufacturer: National Semiconductor; PackageTopMarking: NSUZXYTTE#*LM2678*S-3.3; PowerWise: N; High-Reliability: Y; DatasheetVersion: May-2008; PackageVersion: revE, Jul-2003; PackageReference: TS7B; PackageDescription: TO-263, Molded, .400 x .390 x .180in Body, 7 Lead, .050in Pitch, Surface Mount; RoHS: Y; PinCount: 7; CompType: Switcher; Code_JEDEC: MO-169-AC; ComponentLink1Description: Manufacturer URL; ComponentLink1URL: http://www.national.com/; ComponentLink2Description: LM2678 Datasheet; ComponentLink2URL: http://www.national.com/ds/LM/LM2678.pdf; ComponentLink3Description: LM2678 Web Page; ComponentLink3URL: http://www.national.com/pf/LM/LM2678.html; ComponentLink4Description: TS7B Package Page; ComponentLink4URL: http://www.national.com/packaging/folders/ts7b.html
footprint TS7B_N (D2-PAK, 8-Leads, Body 8.6x10.2mm, Pitch 1.27mm, Lead Span 14.1mm, IPC Medium Density)
footprint TS7B_L (D2-PAK, 8-Leads, Body 8.6x10.2mm, Pitch 1.27mm, Lead Span 14.1mm, IPC High Density)
footprint TS7B_M (D2-PAK, 8-Leads, Body 8.6x10.2mm, Pitch 1.27mm, Lead Span 14.1mm, IPC Low Density)
pins: 1 VSW (power), 2 VIN (power), 3 CB, 4 GND (power), 5 NC, 6 FB (in), 7 ON/~{OFF} (in), 8 TAB (power)

## LM2678S-5.0
designator U?
SIMPLE SWITCHER® High Efficiency 5A Step-Down Voltage Regulator, 7-pin TO-263; PartNumber: LM2678S-5.0; Manufacturer: National Semiconductor; PackageTopMarking: NSUZXYTTE#*LM2678*S-5.0; PowerWise: N; High-Reliability: Y; DatasheetVersion: May-2008; PackageVersion: revE, Jul-2003; PackageReference: TS7B; PackageDescription: TO-263, Molded, .400 x .390 x .180in Body, 7 Lead, .050in Pitch, Surface Mount; RoHS: N; PinCount: 7; CompType: Switcher; Code_JEDEC: MO-169-AC; ComponentLink1Description: Manufacturer URL; ComponentLink1URL: http://www.national.com/; ComponentLink2Description: LM2678 Datasheet; ComponentLink2URL: http://www.national.com/ds/LM/LM2678.pdf; ComponentLink3Description: LM2678 Web Page; ComponentLink3URL: http://www.national.com/pf/LM/LM2678.html; ComponentLink4Description: TS7B Package Page; ComponentLink4URL: http://www.national.com/packaging/folders/ts7b.html
footprint TS7B_N (D2-PAK, 8-Leads, Body 8.6x10.2mm, Pitch 1.27mm, Lead Span 14.1mm, IPC Medium Density)
footprint TS7B_L (D2-PAK, 8-Leads, Body 8.6x10.2mm, Pitch 1.27mm, Lead Span 14.1mm, IPC High Density)
footprint TS7B_M (D2-PAK, 8-Leads, Body 8.6x10.2mm, Pitch 1.27mm, Lead Span 14.1mm, IPC Low Density)
pins: 1 VSW (power), 2 VIN (power), 3 CB, 4 GND (power), 5 NC, 6 FB (in), 7 ON/~{OFF} (in), 8 TAB (power)

## LM2678S-5.0/NOPB
designator U?
SIMPLE SWITCHER® High Efficiency 5A Step-Down Voltage Regulator, 7-pin TO-263, Pb-Free; PartNumber: LM2678S-5.0/NOPB; Manufacturer: National Semiconductor; PackageTopMarking: NSUZXYTTE#*LM2678*S-5.0; PowerWise: N; High-Reliability: Y; DatasheetVersion: May-2008; PackageVersion: revE, Jul-2003; PackageReference: TS7B; PackageDescription: TO-263, Molded, .400 x .390 x .180in Body, 7 Lead, .050in Pitch, Surface Mount; RoHS: Y; PinCount: 7; CompType: Switcher; Code_JEDEC: MO-169-AC; ComponentLink1Description: Manufacturer URL; ComponentLink1URL: http://www.national.com/; ComponentLink2Description: LM2678 Datasheet; ComponentLink2URL: http://www.national.com/ds/LM/LM2678.pdf; ComponentLink3Description: LM2678 Web Page; ComponentLink3URL: http://www.national.com/pf/LM/LM2678.html; ComponentLink4Description: TS7B Package Page; ComponentLink4URL: http://www.national.com/packaging/folders/ts7b.html
footprint TS7B_N (D2-PAK, 8-Leads, Body 8.6x10.2mm, Pitch 1.27mm, Lead Span 14.1mm, IPC Medium Density)
footprint TS7B_L (D2-PAK, 8-Leads, Body 8.6x10.2mm, Pitch 1.27mm, Lead Span 14.1mm, IPC High Density)
footprint TS7B_M (D2-PAK, 8-Leads, Body 8.6x10.2mm, Pitch 1.27mm, Lead Span 14.1mm, IPC Low Density)
pins: 1 VSW (power), 2 VIN (power), 3 CB, 4 GND (power), 5 NC, 6 FB (in), 7 ON/~{OFF} (in), 8 TAB (power)

## LM2678S-12
designator U?
SIMPLE SWITCHER® High Efficiency 5A Step-Down Voltage Regulator, 7-pin TO-263; PartNumber: LM2678S-12; Manufacturer: National Semiconductor; PackageTopMarking: NSUZXYTTE#*LM2678*S-12; PowerWise: N; High-Reliability: Y; DatasheetVersion: May-2008; PackageVersion: revE, Jul-2003; PackageReference: TS7B; PackageDescription: TO-263, Molded, .400 x .390 x .180in Body, 7 Lead, .050in Pitch, Surface Mount; RoHS: N; PinCount: 7; CompType: Switcher; Code_JEDEC: MO-169-AC; ComponentLink1Description: Manufacturer URL; ComponentLink1URL: http://www.national.com/; ComponentLink2Description: LM2678 Datasheet; ComponentLink2URL: http://www.national.com/ds/LM/LM2678.pdf; ComponentLink3Description: LM2678 Web Page; ComponentLink3URL: http://www.national.com/pf/LM/LM2678.html; ComponentLink4Description: TS7B Package Page; ComponentLink4URL: http://www.national.com/packaging/folders/ts7b.html
footprint TS7B_N (D2-PAK, 8-Leads, Body 8.6x10.2mm, Pitch 1.27mm, Lead Span 14.1mm, IPC Medium Density)
footprint TS7B_L (D2-PAK, 8-Leads, Body 8.6x10.2mm, Pitch 1.27mm, Lead Span 14.1mm, IPC High Density)
footprint TS7B_M (D2-PAK, 8-Leads, Body 8.6x10.2mm, Pitch 1.27mm, Lead Span 14.1mm, IPC Low Density)
pins: 1 VSW (power), 2 VIN (power), 3 CB, 4 GND (power), 5 NC, 6 FB (in), 7 ON/~{OFF} (in), 8 TAB (power)

## LM2678S-12/NOPB
designator U?
SIMPLE SWITCHER® High Efficiency 5A Step-Down Voltage Regulator, 7-pin TO-263, Pb-Free; PartNumber: LM2678S-12/NOPB; Manufacturer: National Semiconductor; PackageTopMarking: NSUZXYTTE#*LM2678*S-12; PowerWise: N; High-Reliability: Y; DatasheetVersion: May-2008; PackageVersion: revE, Jul-2003; PackageReference: TS7B; PackageDescription: TO-263, Molded, .400 x .390 x .180in Body, 7 Lead, .050in Pitch, Surface Mount; RoHS: Y; PinCount: 7; CompType: Switcher; Code_JEDEC: MO-169-AC; ComponentLink1Description: Manufacturer URL; ComponentLink1URL: http://www.national.com/; ComponentLink2Description: LM2678 Datasheet; ComponentLink2URL: http://www.national.com/ds/LM/LM2678.pdf; ComponentLink3Description: LM2678 Web Page; ComponentLink3URL: http://www.national.com/pf/LM/LM2678.html; ComponentLink4Description: TS7B Package Page; ComponentLink4URL: http://www.national.com/packaging/folders/ts7b.html
footprint TS7B_N (D2-PAK, 8-Leads, Body 8.6x10.2mm, Pitch 1.27mm, Lead Span 14.1mm, IPC Medium Density)
footprint TS7B_L (D2-PAK, 8-Leads, Body 8.6x10.2mm, Pitch 1.27mm, Lead Span 14.1mm, IPC High Density)
footprint TS7B_M (D2-PAK, 8-Leads, Body 8.6x10.2mm, Pitch 1.27mm, Lead Span 14.1mm, IPC Low Density)
pins: 1 VSW (power), 2 VIN (power), 3 CB, 4 GND (power), 5 NC, 6 FB (in), 7 ON/~{OFF} (in), 8 TAB (power)

## LM2678S-ADJ
designator U?
SIMPLE SWITCHER® High Efficiency 5A Step-Down Voltage Regulator, 7-pin TO-263; PartNumber: LM2678S-ADJ; Manufacturer: National Semiconductor; PackageTopMarking: NSUZXYTTE#*LM2678*S-ADJ; PowerWise: N; High-Reliability: Y; DatasheetVersion: May-2008; PackageVersion: revE, Jul-2003; PackageReference: TS7B; PackageDescription: TO-263, Molded, .400 x .390 x .180in Body, 7 Lead, .050in Pitch, Surface Mount; RoHS: N; PinCount: 7; CompType: Switcher; Code_JEDEC: MO-169-AC; ComponentLink1Description: Manufacturer URL; ComponentLink1URL: http://www.national.com/; ComponentLink2Description: LM2678 Datasheet; ComponentLink2URL: http://www.national.com/ds/LM/LM2678.pdf; ComponentLink3Description: LM2678 Web Page; ComponentLink3URL: http://www.national.com/pf/LM/LM2678.html; ComponentLink4Description: TS7B Package Page; ComponentLink4URL: http://www.national.com/packaging/folders/ts7b.html
footprint TS7B_N (D2-PAK, 8-Leads, Body 8.6x10.2mm, Pitch 1.27mm, Lead Span 14.1mm, IPC Medium Density)
footprint TS7B_L (D2-PAK, 8-Leads, Body 8.6x10.2mm, Pitch 1.27mm, Lead Span 14.1mm, IPC High Density)
footprint TS7B_M (D2-PAK, 8-Leads, Body 8.6x10.2mm, Pitch 1.27mm, Lead Span 14.1mm, IPC Low Density)
pins: 1 VSW (power), 2 VIN (power), 3 CB, 4 GND (power), 5 NC, 6 FB (in), 7 ON/~{OFF} (in), 8 TAB (power)

## LM2678S-ADJ/NOPB
designator U?
SIMPLE SWITCHER® High Efficiency 5A Step-Down Voltage Regulator, 7-pin TO-263, Pb-Free; PartNumber: LM2678S-ADJ/NOPB; Manufacturer: National Semiconductor; PackageTopMarking: NSUZXYTTE#*LM2678*S-ADJ; PowerWise: N; High-Reliability: Y; DatasheetVersion: May-2008; PackageVersion: revE, Jul-2003; PackageReference: TS7B; PackageDescription: TO-263, Molded, .400 x .390 x .180in Body, 7 Lead, .050in Pitch, Surface Mount; RoHS: Y; PinCount: 7; CompType: Switcher; Code_JEDEC: MO-169-AC; ComponentLink1Description: Manufacturer URL; ComponentLink1URL: http://www.national.com/; ComponentLink2Description: LM2678 Datasheet; ComponentLink2URL: http://www.national.com/ds/LM/LM2678.pdf; ComponentLink3Description: LM2678 Web Page; ComponentLink3URL: http://www.national.com/pf/LM/LM2678.html; ComponentLink4Description: TS7B Package Page; ComponentLink4URL: http://www.national.com/packaging/folders/ts7b.html
footprint TS7B_N (D2-PAK, 8-Leads, Body 8.6x10.2mm, Pitch 1.27mm, Lead Span 14.1mm, IPC Medium Density)
footprint TS7B_L (D2-PAK, 8-Leads, Body 8.6x10.2mm, Pitch 1.27mm, Lead Span 14.1mm, IPC High Density)
footprint TS7B_M (D2-PAK, 8-Leads, Body 8.6x10.2mm, Pitch 1.27mm, Lead Span 14.1mm, IPC Low Density)
pins: 1 VSW (power), 2 VIN (power), 3 CB, 4 GND (power), 5 NC, 6 FB (in), 7 ON/~{OFF} (in), 8 TAB (power)

## LM2678SD-3.3
designator U?
SIMPLE SWITCHER® High Efficiency 5A Step-Down Voltage Regulator, 14-pin LLP; PartNumber: LM2678SD-3.3; Manufacturer: National Semiconductor; PackageTopMarking: NS*UZXYTT*S0003CB; PowerWise: N; High-Reliability: Y; DatasheetVersion: May-2008; PackageVersion: revA, Jul-2003; PackageReference: SRC14A; PackageDescription: LLP, Plastic, Dual, 6 x 5 x 1mm Body, 14 Lead, 0.8mm Pitch, No Pullback; RoHS: N; PinCount: 14; CompType: Switcher; ComponentLink1Description: Manufacturer URL; ComponentLink1URL: http://www.national.com/; ComponentLink2Description: LM2678 Datasheet; ComponentLink2URL: http://www.national.com/ds/LM/LM2678.pdf; ComponentLink3Description: LM2678 Web Page; ComponentLink3URL: http://www.national.com/pf/LM/LM2678.html; ComponentLink4Description: SRC14A Package Page; ComponentLink4URL: http://www.national.com/packaging/folders/src14a.html
footprint SRC14A (SON, 14-Leads, Body 6x5 mm, Pitch 0.8mm, NSC Recommended)
pins: 1 NC, 2 VIN (power), 3 VIN (power), 4 CB, 5 NC, 6 NC, 7 FB (in), 8 ON/OFF (in), 9 GND (power), 10 NC, 11 NC, 12 VSW (power), 13 VSW (power), 14 VSW (power), 15 DAP (power)

## LM2678SD-3.3/NOPB
designator U?
SIMPLE SWITCHER® High Efficiency 5A Step-Down Voltage Regulator, 14-pin LLP, Pb-Free; PartNumber: LM2678SD-3.3/NOPB; Manufacturer: National Semiconductor; PackageTopMarking: NS*UZXYTT*S0003CB; PowerWise: N; High-Reliability: Y; DatasheetVersion: May-2008; PackageVersion: revA, Jul-2003; PackageReference: SRC14A; PackageDescription: LLP, Plastic, Dual, 6 x 5 x 1mm Body, 14 Lead, 0.8mm Pitch, No Pullback; RoHS: Y; PinCount: 14; CompType: Switcher; ComponentLink1Description: Manufacturer URL; ComponentLink1URL: http://www.national.com/; ComponentLink2Description: LM2678 Datasheet; ComponentLink2URL: http://www.national.com/ds/LM/LM2678.pdf; ComponentLink3Description: LM2678 Web Page; ComponentLink3URL: http://www.national.com/pf/LM/LM2678.html; ComponentLink4Description: SRC14A Package Page; ComponentLink4URL: http://www.national.com/packaging/folders/src14a.html
footprint SRC14A (SON, 14-Leads, Body 6x5 mm, Pitch 0.8mm, NSC Recommended)
pins: 1 NC, 2 VIN (power), 3 VIN (power), 4 CB, 5 NC, 6 NC, 7 FB (in), 8 ON/OFF (in), 9 GND (power), 10 NC, 11 NC, 12 VSW (power), 13 VSW (power), 14 VSW (power), 15 DAP (power)

## LM2678SD-5.0
designator U?
SIMPLE SWITCHER® High Efficiency 5A Step-Down Voltage Regulator, 14-pin LLP; PartNumber: LM2678SD-5.0; Manufacturer: National Semiconductor; PackageTopMarking: NS*UZXYTT*S0003DB; PowerWise: N; High-Reliability: Y; DatasheetVersion: May-2008; PackageVersion: revA, Jul-2003; PackageReference: SRC14A; PackageDescription: LLP, Plastic, Dual, 6 x 5 x 1mm Body, 14 Lead, 0.8mm Pitch, No Pullback; RoHS: N; PinCount: 14; CompType: Switcher; ComponentLink1Description: Manufacturer URL; ComponentLink1URL: http://www.national.com/; ComponentLink2Description: LM2678 Datasheet; ComponentLink2URL: http://www.national.com/ds/LM/LM2678.pdf; ComponentLink3Description: LM2678 Web Page; ComponentLink3URL: http://www.national.com/pf/LM/LM2678.html; ComponentLink4Description: SRC14A Package Page; ComponentLink4URL: http://www.national.com/packaging/folders/src14a.html
footprint SRC14A (SON, 14-Leads, Body 6x5 mm, Pitch 0.8mm, NSC Recommended)
pins: 1 NC, 2 VIN (power), 3 VIN (power), 4 CB, 5 NC, 6 NC, 7 FB (in), 8 ON/OFF (in), 9 GND (power), 10 NC, 11 NC, 12 VSW (power), 13 VSW (power), 14 VSW (power), 15 DAP (power)

## LM2678SD-5.0/NOPB
designator U?
SIMPLE SWITCHER® High Efficiency 5A Step-Down Voltage Regulator, 14-pin LLP, Pb-Free; PartNumber: LM2678SD-5.0/NOPB; Manufacturer: National Semiconductor; PackageTopMarking: NS*UZXYTT*S0003DB; PowerWise: N; High-Reliability: Y; DatasheetVersion: May-2008; PackageVersion: revA, Jul-2003; PackageReference: SRC14A; PackageDescription: LLP, Plastic, Dual, 6 x 5 x 1mm Body, 14 Lead, 0.8mm Pitch, No Pullback; RoHS: Y; PinCount: 14; CompType: Switcher; ComponentLink1Description: Manufacturer URL; ComponentLink1URL: http://www.national.com/; ComponentLink2Description: LM2678 Datasheet; ComponentLink2URL: http://www.national.com/ds/LM/LM2678.pdf; ComponentLink3Description: LM2678 Web Page; ComponentLink3URL: http://www.national.com/pf/LM/LM2678.html; ComponentLink4Description: SRC14A Package Page; ComponentLink4URL: http://www.national.com/packaging/folders/src14a.html
footprint SRC14A (SON, 14-Leads, Body 6x5 mm, Pitch 0.8mm, NSC Recommended)
pins: 1 NC, 2 VIN (power), 3 VIN (power), 4 CB, 5 NC, 6 NC, 7 FB (in), 8 ON/OFF (in), 9 GND (power), 10 NC, 11 NC, 12 VSW (power), 13 VSW (power), 14 VSW (power), 15 DAP (power)

## LM2678SD-12
designator U?
SIMPLE SWITCHER® High Efficiency 5A Step-Down Voltage Regulator, 14-pin LLP; PartNumber: LM2678SD-12; Manufacturer: National Semiconductor; PackageTopMarking: NS*UZXYTT*S0003BB; PowerWise: N; High-Reliability: Y; DatasheetVersion: May-2008; PackageVersion: revA, Jul-2003; PackageReference: SRC14A; PackageDescription: LLP, Plastic, Dual, 6 x 5 x 1mm Body, 14 Lead, 0.8mm Pitch, No Pullback; RoHS: N; PinCount: 14; CompType: Switcher; ComponentLink1Description: Manufacturer URL; ComponentLink1URL: http://www.national.com/; ComponentLink2Description: LM2678 Datasheet; ComponentLink2URL: http://www.national.com/ds/LM/LM2678.pdf; ComponentLink3Description: LM2678 Web Page; ComponentLink3URL: http://www.national.com/pf/LM/LM2678.html; ComponentLink4Description: SRC14A Package Page; ComponentLink4URL: http://www.national.com/packaging/folders/src14a.html
footprint SRC14A (SON, 14-Leads, Body 6x5 mm, Pitch 0.8mm, NSC Recommended)
pins: 1 NC, 2 VIN (power), 3 VIN (power), 4 CB, 5 NC, 6 NC, 7 FB (in), 8 ON/OFF (in), 9 GND (power), 10 NC, 11 NC, 12 VSW (power), 13 VSW (power), 14 VSW (power), 15 DAP (power)

## LM2678SD-ADJ
designator U?
SIMPLE SWITCHER® High Efficiency 5A Step-Down Voltage Regulator, 14-pin LLP; PartNumber: LM2678SD-ADJ; Manufacturer: National Semiconductor; PackageTopMarking: NS*UZXYTT*S0003EB; PowerWise: N; High-Reliability: Y; DatasheetVersion: May-2008; PackageVersion: revA, Jul-2003; PackageReference: SRC14A; PackageDescription: LLP, Plastic, Dual, 6 x 5 x 1mm Body, 14 Lead, 0.8mm Pitch, No Pullback; RoHS: N; PinCount: 14; CompType: Switcher; ComponentLink1Description: Manufacturer URL; ComponentLink1URL: http://www.national.com/; ComponentLink2Description: LM2678 Datasheet; ComponentLink2URL: http://www.national.com/ds/LM/LM2678.pdf; ComponentLink3Description: LM2678 Web Page; ComponentLink3URL: http://www.national.com/pf/LM/LM2678.html; ComponentLink4Description: SRC14A Package Page; ComponentLink4URL: http://www.national.com/packaging/folders/src14a.html
footprint SRC14A (SON, 14-Leads, Body 6x5 mm, Pitch 0.8mm, NSC Recommended)
pins: 1 NC, 2 VIN (power), 3 VIN (power), 4 CB, 5 NC, 6 NC, 7 FB (in), 8 ON/OFF (in), 9 GND (power), 10 NC, 11 NC, 12 VSW (power), 13 VSW (power), 14 VSW (power), 15 DAP (power)

## LM2678SD-ADJ/NOPB
designator U?
SIMPLE SWITCHER® High Efficiency 5A Step-Down Voltage Regulator, 14-pin LLP, Pb-Free; PartNumber: LM2678SD-ADJ/NOPB; Manufacturer: National Semiconductor; PackageTopMarking: NS*UZXYTT*S0003EB; PowerWise: N; High-Reliability: Y; DatasheetVersion: May-2008; PackageVersion: revA, Jul-2003; PackageReference: SRC14A; PackageDescription: LLP, Plastic, Dual, 6 x 5 x 1mm Body, 14 Lead, 0.8mm Pitch, No Pullback; RoHS: Y; PinCount: 14; CompType: Switcher; ComponentLink1Description: Manufacturer URL; ComponentLink1URL: http://www.national.com/; ComponentLink2Description: LM2678 Datasheet; ComponentLink2URL: http://www.national.com/ds/LM/LM2678.pdf; ComponentLink3Description: LM2678 Web Page; ComponentLink3URL: http://www.national.com/pf/LM/LM2678.html; ComponentLink4Description: SRC14A Package Page; ComponentLink4URL: http://www.national.com/packaging/folders/src14a.html
footprint SRC14A (SON, 14-Leads, Body 6x5 mm, Pitch 0.8mm, NSC Recommended)
pins: 1 NC, 2 VIN (power), 3 VIN (power), 4 CB, 5 NC, 6 NC, 7 FB (in), 8 ON/OFF (in), 9 GND (power), 10 NC, 11 NC, 12 VSW (power), 13 VSW (power), 14 VSW (power), 15 DAP (power)

## LM2678SDX-3.3
designator U?
SIMPLE SWITCHER® High Efficiency 5A Step-Down Voltage Regulator, 14-pin LLP; PartNumber: LM2678SDX-3.3; Manufacturer: National Semiconductor; PackageTopMarking: NS*UZXYTT*S0003CB; PowerWise: N; High-Reliability: Y; DatasheetVersion: May-2008; PackageVersion: revA, Jul-2003; PackageReference: SRC14A; PackageDescription: LLP, Plastic, Dual, 6 x 5 x 1mm Body, 14 Lead, 0.8mm Pitch, No Pullback; RoHS: N; PinCount: 14; CompType: Switcher; ComponentLink1Description: Manufacturer URL; ComponentLink1URL: http://www.national.com/; ComponentLink2Description: LM2678 Datasheet; ComponentLink2URL: http://www.national.com/ds/LM/LM2678.pdf; ComponentLink3Description: LM2678 Web Page; ComponentLink3URL: http://www.national.com/pf/LM/LM2678.html; ComponentLink4Description: SRC14A Package Page; ComponentLink4URL: http://www.national.com/packaging/folders/src14a.html
footprint SRC14A (SON, 14-Leads, Body 6x5 mm, Pitch 0.8mm, NSC Recommended)
pins: 1 NC, 2 VIN (power), 3 VIN (power), 4 CB, 5 NC, 6 NC, 7 FB (in), 8 ON/OFF (in), 9 GND (power), 10 NC, 11 NC, 12 VSW (power), 13 VSW (power), 14 VSW (power), 15 DAP (power)